# Altium footprint library FlexV1.PcbLib: 25 footprints (part 1 of 2)
Each footprint in its own frame and in the unit in brackets; x right, y up, seen from the top. Pads: shape width x height; smd on the part's side, far side on the other; paste and mask are expansions set on the pad; w line width, h text height; cw(c..) or ccw(c..) is an arc to the next point about the centre after c.
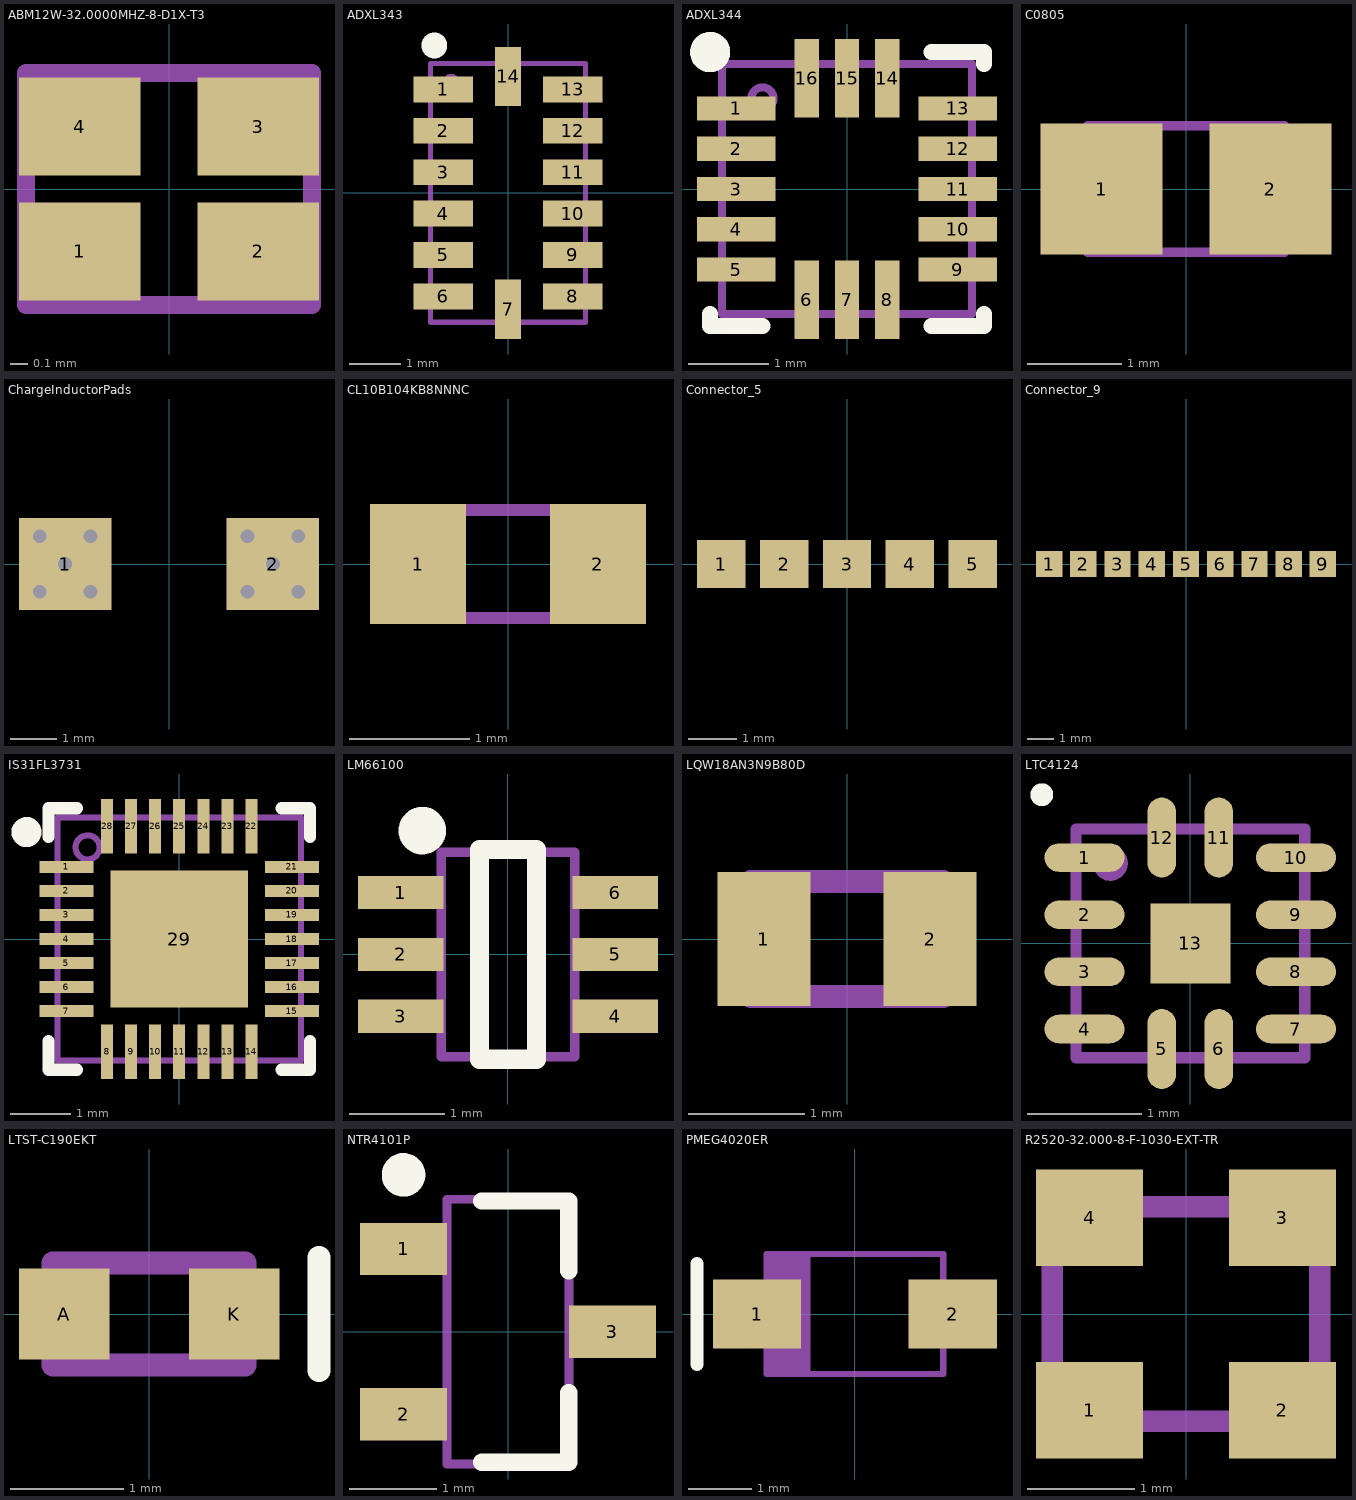
[diagram p0: the footprints below, top view; thin cyan lines are the x and y axes]

## ABM12W-32.0000MHZ-8-D1X-T3 [mm]
pads (4):
  rect 0.68x0.55 smd: 1(-0.5,-0.35) 2(0.5,-0.35) 3(0.5,0.35) 4(-0.5,0.35)
Top Assembly:
  lines w0.1: -0.8,-0.65 0.8,-0.65 0.8,0.65 -0.8,0.65 -0.8,-0.65
  text "'.Designator'" at -0.675,-0.3 h1
Top 3D Body:
  lines w0.1: -0.8,-0.65 0.8,-0.65 0.8,0.65 -0.8,0.65 -0.8,-0.65
3D body: height 0.4, standoff 0, extent -0.8,-0.65 0.8,0.65

## ADXL343 [mm]
height 1
pads (14):
  rect 1.15x0.5 smd: 1(-1.25,2) 2(-1.25,1.2) 3(-1.25,0.4) 4(-1.25,-0.4) 5(-1.25,-1.2) 6(-1.25,-2) 8(1.25,-2) 9(1.25,-1.2) 10(1.25,-0.4) 11(1.25,0.4) 12(1.25,1.2) 13(1.25,2)
  rect 0.5x1.15 smd: 7(0,-2.25) 14(0,2.25)
Top Overlay:
  circle w0.25: c-1.425,2.85 r0.125
Top Assembly:
  circle w0.1: c-1.1,2.15 r0.103
  lines w0.1: -1.5,-2.5 -1.5,2.5 1.5,2.5 1.5,-2.5 -1.5,-2.5
  text "'.Designator'" at -1.125,-0.325 h0.7
3D body "ADXL343.step": height 1, standoff 0, extent -1.5,-2.5 1.5,2.5

## ADXL344 [mm]
height 1
pads (16):
  rect 0.975x0.3 smd: 1(-1.375,1) 2(-1.375,0.5) 3(-1.375,0) 4(-1.375,-0.5) 5(-1.375,-1) 9(1.375,-1) 10(1.375,-0.5) 11(1.375,0) 12(1.375,0.5) 13(1.375,1)
  rect 0.3x0.975 smd: 6(-0.5,-1.375) 7(0,-1.375) 8(0.5,-1.375) 14(0.5,1.375) 15(0,1.375) 16(-0.5,1.375)
Top Overlay:
  circle w0.25: c-1.7,1.7 r0.125
  lines w0.2: -1.7,-1.55 -1.7,-1.7 -1.05,-1.7 ; 1.05,-1.7 1.7,-1.7 1.7,-1.55 ; 1.05,1.7 1.7,1.7 1.7,1.55
Top Assembly:
  lines w0.1: -1.55,-1.55 -1.55,1.55 1.55,1.55 1.55,-1.55 -1.55,-1.55 ; -0.913,1.125 ccw(c-1.05,1.125) -0.913,1.125
  text "'.Designator'" at -1.15,-0.45 h0.7
3D body "ADXL344.step": height 1, standoff 0, extent -1.55,-1.55 1.55,1.55

## C0805 [mm]
height 1.35
pads (2):
  rect 1.3x1.4 smd: 1(-0.9,0) 2(0.9,0)
Top Assembly:
  lines w0.1: -1.05,-0.675 1.05,-0.675 1.05,0.675 -1.05,0.675 -1.05,-0.675
  text "'.Designator'" at -0.9,-0.4 h0.7
3D body "C0805.step": height 1.35, standoff 0, extent -1.05,-0.675 1.05,0.675

## ChargeInductorPads [mm]
pads (2):
  rect 2x2 hole 0.3: 1(-2.25,0) 2(2.25,0)
via -1.7,0.6 diameter 0.65 hole 0.3
via 2.8,0.6 diameter 0.65 hole 0.3
via -2.8,-0.6 diameter 0.65 hole 0.3
via -2.8,0.6 diameter 0.65 hole 0.3
via -1.7,-0.6 diameter 0.65 hole 0.3
via 1.7,-0.6 diameter 0.65 hole 0.3
via 1.7,0.6 diameter 0.65 hole 0.3
via 2.8,-0.6 diameter 0.65 hole 0.3
Top Layer:
  rectangle: -3.05,-0.8 -1.45,0.8
  rectangle: 1.45,-0.8 3.05,0.8
  lines w0.203: -1.85,0.4 -1.85,0.4 ; 2.65,0.4 2.65,0.4
Top Assembly:
  text "'.Designator'" at -2.725,-0.325 h0.7
  text "'.Designator'" at 1.775,-0.325 h0.7
3D body: height 0.3, standoff 0, extent -3.25,-1 -1.25,1
3D body: height 0.3, standoff 0, extent 1.25,-1 3.25,1

## CL10B104KB8NNNC [mm]
height 0.9
pads (2):
  rect 0.8x1 smd: 1(-0.75,0) 2(0.75,0)
Top Assembly:
  lines w0.1: -0.85,-0.45 0.85,-0.45 0.85,0.45 -0.85,0.45 -0.85,-0.45
  text "'.Designator'" at -0.85,-0.45 h0.7
3D body "CL10B104KB8NNNC.step": height 0.9, standoff 0, extent -0.85,-0.45 0.85,0.45

## Connector_5 [mm]
pads (5):
  rect 1x1 smd paste-1000: 1(-2.6,0) 2(-1.3,0) 3(0,0) 4(1.3,0) 5(2.6,0)

## Connector_9 [mm]
pads (9):
  rect 1x1 smd paste-1000: 1(-5.2,0) 2(-3.9,0) 3(-2.6,0) 4(-1.3,0) 5(0,0) 6(1.3,0) 7(2.6,0) 8(3.9,0) 9(5.2,0)

## IS31FL3731 [mm] "QFN, 28-Leads, Body 4,00x4,00mm, Pitch 0,40mm, Thermal Pad 2,28x2,28mm, IPC Medium Density"
height 0.75
pads (29):
  rect 0.9x0.2 smd: 1(-1.875,1.2) 2(-1.875,0.8) 3(-1.875,0.4) 4(-1.875,0) 5(-1.875,-0.4) 6(-1.875,-0.8) 7(-1.875,-1.2) 15(1.875,-1.2) 16(1.875,-0.8) 17(1.875,-0.4) 18(1.875,0) 19(1.875,0.4) 20(1.875,0.8) 21(1.875,1.2)
  rect 0.2x0.9 smd: 8(-1.2,-1.875) 9(-0.8,-1.875) 10(-0.4,-1.875) 11(0,-1.875) 12(0.4,-1.875) 13(0.8,-1.875) 14(1.2,-1.875) 22(1.2,1.875) 23(0.8,1.875) 24(0.4,1.875) 25(0,1.875) 26(-0.4,1.875) 27(-0.8,1.875) 28(-1.2,1.875)
  rect 2.28x2.28 smd: 29(0,0)
Top Overlay:
  circle w0.25: c-2.54,1.778 r0.125
  lines w0.2: -2.175,-1.7 -2.175,-2.175 -1.7,-2.175 ; -2.175,1.7 -2.175,2.175 -1.7,2.175 ; 1.7,-2.175 2.175,-2.175 2.175,-1.7 ; 1.7,2.175 2.175,2.175 2.175,1.7
Top Assembly:
  circle w0.1: c-1.524,1.524 r0.2
  lines w0.1: -2.025,-2.025 2.025,-2.025 2.025,2.025 -2.025,2.025 -2.025,-2.025
  text "'.Designator'" at -1.524,-0.381 h0.7
3D body "IS31FL3731.step": height 0.75, standoff 0, extent -2.026,-2.026 2.026,2.026

## LM66100 [mm]
height 1.1
pads (6):
  rect 0.9x0.35 smd: 1(-1.125,0.65) 2(-1.125,0) 3(-1.125,-0.65) 4(1.125,-0.65) 5(1.125,0) 6(1.125,0.65)
Top Overlay:
  circle w0.25: c-0.9,1.3 r0.125
  lines w0.2: -0.3,-1.1 0.3,-1.1 0.3,1.1 -0.3,1.1 -0.3,-1.1
Top Assembly:
  lines w0.1: -0.7,-1.075 -0.7,1.075 0.7,1.075 0.7,-1.075 -0.7,-1.075
  text "'.Designator'" at -0.525,-0.275 h0.5
3D body "LM66100.step": height 1.1, standoff 0, extent -1.2,-1.075 1.2,1.075

## LQW18AN3N9B80D [mm]
pads (2):
  rect 0.8x1.15 smd: 1(-0.715,0) 2(0.715,0)
Top Assembly:
  lines w0.2: -0.825,-0.495 -0.825,0.495 0.825,0.495 0.825,-0.495 -0.825,-0.495
  text "'.Designator'" at -0.7,-0.3 h0.5
3D body "L-W18AN11NG80D--3DModel-STEP-231308.STEP": height 1, standoff 0, extent -0.825,-0.495 0.825,0.495

## LTC4124 [mm]
height 0.83
pads (13):
  oval 0.7x0.25 smd: 1(-0.925,0.75) 2(-0.925,0.25) 3(-0.925,-0.25) 4(-0.925,-0.75) 7(0.925,-0.75) 8(0.925,-0.25) 9(0.925,0.25) 10(0.925,0.75)
  oval 0.25x0.7 smd: 5(-0.25,-0.925) 6(0.25,-0.925) 11(0.25,0.925) 12(-0.25,0.925)
  rect 0.7x0.7 smd: 13(0,0)
Top Overlay:
  circle w0.1: c-1.3,1.3 r0.05
Top Assembly:
  circle w0.1: c-0.7,0.7 r0.103
  lines w0.1: -1,-1 -1,1 1,1 1,-1 -1,-1
  text "'.Designator'" at -0.7,-0.425 h0.7
3D body "LTC4124.step": height 0.83, standoff 0, extent -1.01,-1.01 1.01,1.01

## LTST-C190EKT [mm]
pads (2):
  rect 0.8x0.8 smd: A(-0.75,0) K(0.75,0)
Top Overlay:
  lines w0.2: 1.5,-0.5 1.5,0.5
Top Assembly:
  lines w0.2: -0.85,-0.45 -0.85,0.45 0.85,0.45 0.85,-0.45 -0.85,-0.45
  text "'.Designator'" at -0.7,-0.2 h0.8
3D body "LTST-S270GKT--3DModel-STEP-56544.STEP": height 1.15, standoff 0, extent -0.8,-0.3 0.8,0.3

## NTR4101P [mm]
height 1.11
pads (3):
  rect 1x0.6 smd: 1(-1.2,0.95) 2(-1.2,-0.95) 3(1.2,0)
Top Overlay:
  circle w0.25: c-1.2,1.8 r0.125
  lines w0.2: -0.3,-1.5 0.7,-1.5 0.7,-0.7 ; -0.3,1.5 0.7,1.5 0.7,0.7
Top Assembly:
  lines w0.1: -0.7,-1.52 0.7,-1.52 0.7,1.52 -0.7,1.52 -0.7,-1.52
  text "'.Designator'" at -0.55,-0.25 h0.8
3D body "NTR4101P.step": height 1.11, standoff 0, extent -1.32,-1.52 1.32,1.52

## PMEG4020ER [mm]
pads (2):
  rect 1.4x1.1 smd: 1(-1.55,0) 2(1.55,0)
Top Overlay:
  lines w0.2: -2.5,-0.8 -2.5,0.8
Top Assembly:
  rectangle: -1.4,-0.95 -0.7,0.95
  lines w0.1: -1.4,-0.95 -1.4,0.95 1.4,0.95 1.4,-0.95 -1.4,-0.95
  text "'.Designator'" at -0.708,-0.611 h2
3D body "SOD123W.step": height 1.1, standoff 0, extent -1.75,-0.95 1.75,0.95

## R2520-32.000-8-F-1030-EXT-TR [mm]
height 0.65
pads (4):
  rect 1x0.9 smd: 1(-0.9,-0.9) 2(0.9,-0.9) 3(0.9,0.9) 4(-0.9,0.9)
Top Assembly:
  lines w0.2: -1.25,-1 -1.25,1 1.25,1 1.25,-1 -1.25,-1
  text "'.Designator'" at -1.4,-0.4 h0.7
3D body "ECS-120-12-36-AGN-TR--3DModel-STEP-56544.STEP": height 0.6, standoff 0, extent -1.25,-1 1.25,1